# Altium integrated library AD Power Mgt Switching Regulator.IntLib: 24 symbols
Pins are listed as number, name and electrical type; pins without a type are passive.

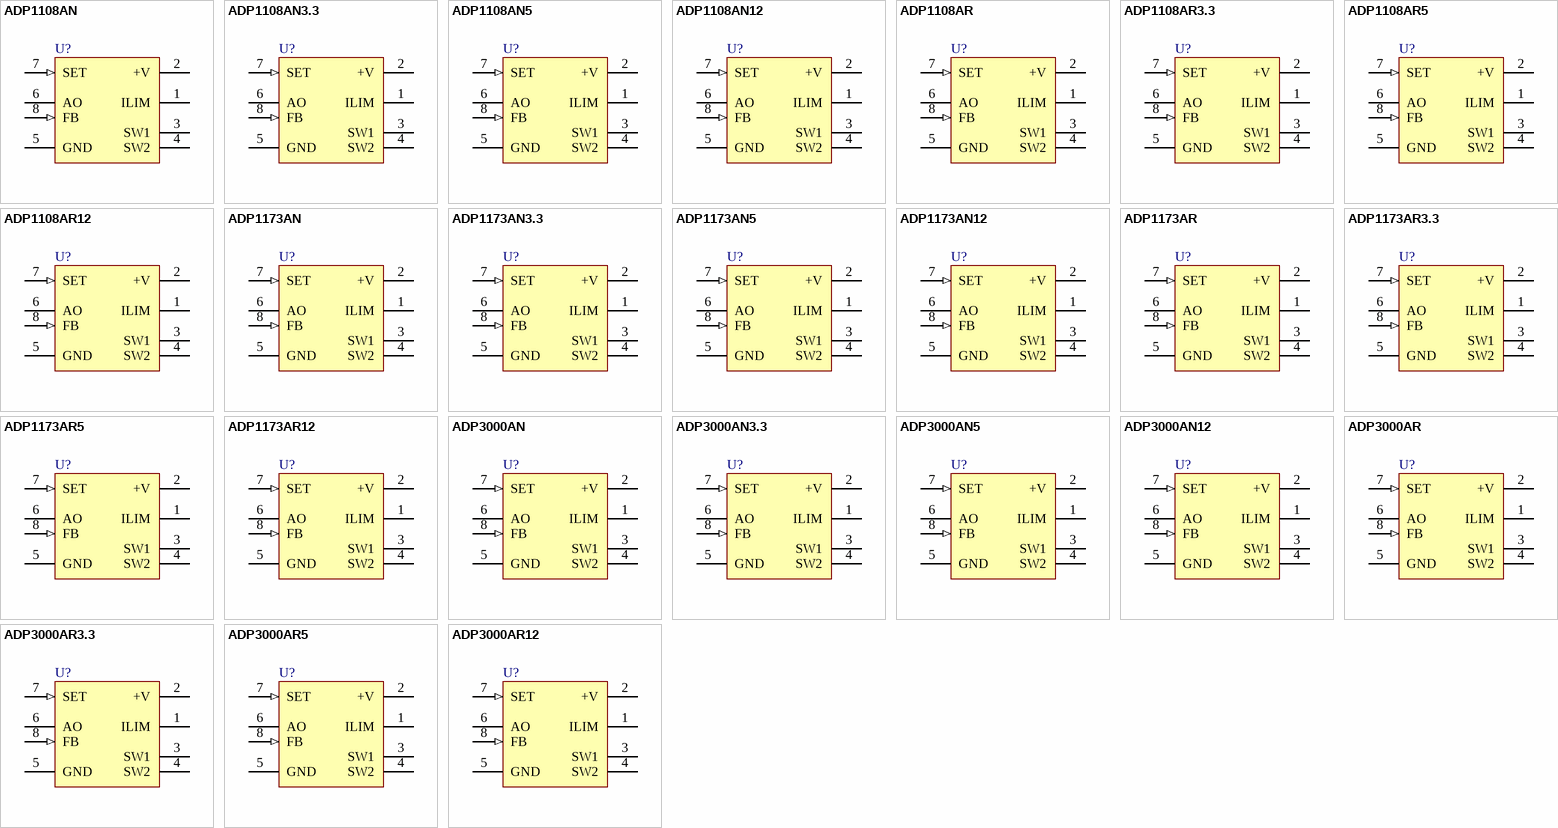
[diagram p0: symbols ADP1108AN to ADP3000AR12]

## ADP1108AN
designator U?
Micropower DC-DC Converter Adjustable and Fixed 3.3V, 5V, 12V; Published: 8-Jun-2000; LatestRevisionDate: 29-May-2009; LatestRevisionNote: Component Body Added.; DatasheetVersion: REV.0 1997; PackageReference: N-8_A; Publisher: Altium Limited; PackageDescription: DIP, 8-Pin, Row Spacing 7.62 mm, Pitch 2.54 mm; Code_JEDEC: MO-001-AN; ComponentLink1Description: Manufacturer Link; ComponentLink1URL: http://www.analog.com/
footprint N-8_A (DIP, 8-Leads, Row Spacing 7.62mm, Pitch 2.54mm, Body 9.88x6.61mm)
3D model N-8A (DIP, 8-Pin, Row Spacing 7.62 mm, Pitch 2.54 mm)
pins: 1 ILIM, 2 +V (power), 3 SW1, 4 SW2, 5 GND (power), 6 AO (oc), 7 SET (in), 8 FB (in)

## ADP1108AN3.3
designator U?
Micropower DC-DC Converter Adjustable and Fixed 3.3V, 5V, 12V; Published: 8-Jun-2000; LatestRevisionDate: 29-May-2009; LatestRevisionNote: Component Body Added.; DatasheetVersion: REV.0 1997; PackageReference: N-8_A; Publisher: Altium Limited; PackageDescription: DIP, 8-Pin, Row Spacing 7.62 mm, Pitch 2.54 mm; Code_JEDEC: MO-001-AN; ComponentLink1Description: Manufacturer Link; ComponentLink1URL: http://www.analog.com/
footprint N-8_A (DIP, 8-Leads, Row Spacing 7.62mm, Pitch 2.54mm, Body 9.88x6.61mm)
3D model N-8A (DIP, 8-Pin, Row Spacing 7.62 mm, Pitch 2.54 mm)
pins: 1 ILIM, 2 +V (power), 3 SW1, 4 SW2, 5 GND (power), 6 AO (oc), 7 SET (in), 8 FB (in)

## ADP1108AN5
designator U?
Micropower DC-DC Converter Adjustable and Fixed 3.3V, 5V, 12V; Published: 8-Jun-2000; LatestRevisionDate: 29-May-2009; LatestRevisionNote: Component Body Added.; DatasheetVersion: REV.0 1997; PackageReference: N-8_A; Publisher: Altium Limited; PackageDescription: DIP, 8-Pin, Row Spacing 7.62 mm, Pitch 2.54 mm; Code_JEDEC: MO-001-AN; ComponentLink1Description: Manufacturer Link; ComponentLink1URL: http://www.analog.com/
footprint N-8_A (DIP, 8-Leads, Row Spacing 7.62mm, Pitch 2.54mm, Body 9.88x6.61mm)
3D model N-8A (DIP, 8-Pin, Row Spacing 7.62 mm, Pitch 2.54 mm)
pins: 1 ILIM, 2 +V (power), 3 SW1, 4 SW2, 5 GND (power), 6 AO (oc), 7 SET (in), 8 FB (in)

## ADP1108AN12
designator U?
Micropower DC-DC Converter Adjustable and Fixed 3.3V, 5V, 12V; Published: 8-Jun-2000; LatestRevisionDate: 29-May-2009; LatestRevisionNote: Component Body Added.; DatasheetVersion: REV.0 1997; PackageReference: N-8_A; Publisher: Altium Limited; PackageDescription: DIP, 8-Pin, Row Spacing 7.62 mm, Pitch 2.54 mm; Code_JEDEC: MO-001-AN; ComponentLink1Description: Manufacturer Link; ComponentLink1URL: http://www.analog.com/
footprint N-8_A (DIP, 8-Leads, Row Spacing 7.62mm, Pitch 2.54mm, Body 9.88x6.61mm)
3D model N-8A (DIP, 8-Pin, Row Spacing 7.62 mm, Pitch 2.54 mm)
pins: 1 ILIM, 2 +V (power), 3 SW1, 4 SW2, 5 GND (power), 6 AO (oc), 7 SET (in), 8 FB (in)

## ADP1108AR
designator U?
Micropower DC-DC Converter Adjustable and Fixed 3.3V, 5V, 12V; Published: 8-Jun-2000; LatestRevisionDate: 13-Apr-2006; LatestRevisionNote: IPC-7351 Footprint Added.; DatasheetVersion: REV.0 1997; PackageVersion: revA; PackageReference: SO-8; Publisher: Altium Limited; PackageDescription: 8-Pin Small Outline Integrated Circuit 1.27 mm Pitch; Code_JEDEC: MS-012-AA; Code_IPC: SOIC127P600-8; ComponentLink1Description: Manufacturer Link; ComponentLink1URL: http://www.analog.com/
footprint SO-8_N (SOIC, 8-Leads, Body 4.9x3.9mm, Pitch 1.27mm, IPC Medium Density)
footprint SO-8_L (SOIC, 8-Leads, Body 4.9x3.9mm, Pitch 1.27mm, IPC High Density)
footprint SO-8_M (SOIC, 8-Leads, Body 4.9x3.9mm, Pitch 1.27mm, IPC Low Density)
3D model SO-8 (8-Pin Small Outline Integrated Circuit 1.27 mm Pitch)
pins: 1 ILIM, 2 +V (power), 3 SW1, 4 SW2, 5 GND (power), 6 AO (oc), 7 SET (in), 8 FB (in)

## ADP1108AR3.3
designator U?
Micropower DC-DC Converter Adjustable and Fixed 3.3V, 5V, 12V; Published: 8-Jun-2000; LatestRevisionDate: 13-Apr-2006; LatestRevisionNote: IPC-7351 Footprint Added.; DatasheetVersion: REV.0 1997; PackageVersion: revA; PackageReference: SO-8; Publisher: Altium Limited; PackageDescription: 8-Pin Small Outline Integrated Circuit 1.27 mm Pitch; Code_JEDEC: MS-012-AA; Code_IPC: SOIC127P600-8; ComponentLink1Description: Manufacturer Link; ComponentLink1URL: http://www.analog.com/
footprint SO-8_N (SOIC, 8-Leads, Body 4.9x3.9mm, Pitch 1.27mm, IPC Medium Density)
footprint SO-8_L (SOIC, 8-Leads, Body 4.9x3.9mm, Pitch 1.27mm, IPC High Density)
footprint SO-8_M (SOIC, 8-Leads, Body 4.9x3.9mm, Pitch 1.27mm, IPC Low Density)
3D model SO-8 (8-Pin Small Outline Integrated Circuit 1.27 mm Pitch)
pins: 1 ILIM, 2 +V (power), 3 SW1, 4 SW2, 5 GND (power), 6 AO (oc), 7 SET (in), 8 FB (in)

## ADP1108AR5
designator U?
Micropower DC-DC Converter Adjustable and Fixed 3.3V, 5V, 12V; Published: 8-Jun-2000; LatestRevisionDate: 13-Apr-2006; LatestRevisionNote: IPC-7351 Footprint Added.; DatasheetVersion: REV.0 1997; PackageVersion: revA; PackageReference: SO-8; Publisher: Altium Limited; PackageDescription: 8-Pin Small Outline Integrated Circuit 1.27 mm Pitch; Code_JEDEC: MS-012-AA; Code_IPC: SOIC127P600-8; ComponentLink1Description: Manufacturer Link; ComponentLink1URL: http://www.analog.com/
footprint SO-8_N (SOIC, 8-Leads, Body 4.9x3.9mm, Pitch 1.27mm, IPC Medium Density)
footprint SO-8_L (SOIC, 8-Leads, Body 4.9x3.9mm, Pitch 1.27mm, IPC High Density)
footprint SO-8_M (SOIC, 8-Leads, Body 4.9x3.9mm, Pitch 1.27mm, IPC Low Density)
3D model SO-8 (8-Pin Small Outline Integrated Circuit 1.27 mm Pitch)
pins: 1 ILIM, 2 +V (power), 3 SW1, 4 SW2, 5 GND (power), 6 AO (oc), 7 SET (in), 8 FB (in)

## ADP1108AR12
designator U?
Micropower DC-DC Converter Adjustable and Fixed 3.3V, 5V, 12V; Published: 8-Jun-2000; LatestRevisionDate: 13-Apr-2006; LatestRevisionNote: IPC-7351 Footprint Added.; DatasheetVersion: REV.0 1997; PackageVersion: revA; PackageReference: SO-8; Publisher: Altium Limited; PackageDescription: 8-Pin Small Outline Integrated Circuit 1.27 mm Pitch; Code_JEDEC: MS-012-AA; Code_IPC: SOIC127P600-8; ComponentLink1Description: Manufacturer Link; ComponentLink1URL: http://www.analog.com/
footprint SO-8_N (SOIC, 8-Leads, Body 4.9x3.9mm, Pitch 1.27mm, IPC Medium Density)
footprint SO-8_L (SOIC, 8-Leads, Body 4.9x3.9mm, Pitch 1.27mm, IPC High Density)
footprint SO-8_M (SOIC, 8-Leads, Body 4.9x3.9mm, Pitch 1.27mm, IPC Low Density)
3D model SO-8 (8-Pin Small Outline Integrated Circuit 1.27 mm Pitch)
pins: 1 ILIM, 2 +V (power), 3 SW1, 4 SW2, 5 GND (power), 6 AO (oc), 7 SET (in), 8 FB (in)

## ADP1173AN
designator U?
Micropower DC-DC Converter; Published: 8-Jun-2000; LatestRevisionDate: 29-May-2009; LatestRevisionNote: Component Body Added.; DatasheetVersion: REV.0 1997; PackageReference: N-8_A; Publisher: Altium Limited; PackageDescription: DIP, 8-Pin, Row Spacing 7.62 mm, Pitch 2.54 mm; Code_JEDEC: MO-001-AN; ComponentLink1Description: Manufacturer Link; ComponentLink1URL: http://www.analog.com/; ComponentLink2Description: Datasheet; ComponentLink2URL: http://www.analog.com/UploadedFiles/Data_Sheets/865213528ADP1173_0.pdf#xml=http://search.analog.com/search/pdfPainter.aspx?url=http://www.analog.com/UploadedFiles/Data_Sheets/865213528ADP1173_0.pdf&fterm=ADP1173AN&fterm=ADP1173AN&la=en
footprint N-8_A (DIP, 8-Leads, Row Spacing 7.62mm, Pitch 2.54mm, Body 9.88x6.61mm)
3D model N-8A (DIP, 8-Pin, Row Spacing 7.62 mm, Pitch 2.54 mm)
pins: 1 ILIM, 2 +V (power), 3 SW1, 4 SW2, 5 GND (power), 6 AO (oc), 7 SET (in), 8 FB (in)

## ADP1173AN3.3
designator U?
Micropower DC-DC Converter; Published: 8-Jun-2000; LatestRevisionDate: 29-May-2009; LatestRevisionNote: Component Body Added.; DatasheetVersion: REV.0 1997; PackageReference: N-8_A; Publisher: Altium Limited; PackageDescription: DIP, 8-Pin, Row Spacing 7.62 mm, Pitch 2.54 mm; Code_JEDEC: MO-001-AN; ComponentLink1Description: Manufacturer Link; ComponentLink1URL: http://www.analog.com/; ComponentLink2Description: Datasheet; ComponentLink2URL: http://www.analog.com/UploadedFiles/Data_Sheets/865213528ADP1173_0.pdf#xml=http://search.analog.com/search/pdfPainter.aspx?url=http://www.analog.com/UploadedFiles/Data_Sheets/865213528ADP1173_0.pdf&fterm=ADP1173AN&fterm=ADP1173AN&la=en
footprint N-8_A (DIP, 8-Leads, Row Spacing 7.62mm, Pitch 2.54mm, Body 9.88x6.61mm)
3D model N-8A (DIP, 8-Pin, Row Spacing 7.62 mm, Pitch 2.54 mm)
pins: 1 ILIM, 2 +V (power), 3 SW1, 4 SW2, 5 GND (power), 6 AO (oc), 7 SET (in), 8 FB (in)

## ADP1173AN5
designator U?
Micropower DC-DC Converter; Published: 8-Jun-2000; LatestRevisionDate: 29-May-2009; LatestRevisionNote: Component Body Added.; DatasheetVersion: REV.0 1997; PackageReference: N-8_A; Publisher: Altium Limited; PackageDescription: DIP, 8-Pin, Row Spacing 7.62 mm, Pitch 2.54 mm; Code_JEDEC: MO-001-AN; ComponentLink1Description: Manufacturer Link; ComponentLink1URL: http://www.analog.com/; ComponentLink2Description: Datasheet; ComponentLink2URL: http://www.analog.com/UploadedFiles/Data_Sheets/865213528ADP1173_0.pdf#xml=http://search.analog.com/search/pdfPainter.aspx?url=http://www.analog.com/UploadedFiles/Data_Sheets/865213528ADP1173_0.pdf&fterm=ADP1173AN&fterm=ADP1173AN&la=en
footprint N-8_A (DIP, 8-Leads, Row Spacing 7.62mm, Pitch 2.54mm, Body 9.88x6.61mm)
3D model N-8A (DIP, 8-Pin, Row Spacing 7.62 mm, Pitch 2.54 mm)
pins: 1 ILIM, 2 +V (power), 3 SW1, 4 SW2, 5 GND (power), 6 AO (oc), 7 SET (in), 8 FB (in)

## ADP1173AN12
designator U?
Micropower DC-DC Converter; Published: 8-Jun-2000; LatestRevisionDate: 29-May-2009; LatestRevisionNote: Component Body Added.; DatasheetVersion: REV.0 1997; PackageReference: N-8_A; Publisher: Altium Limited; PackageDescription: DIP, 8-Pin, Row Spacing 7.62 mm, Pitch 2.54 mm; Code_JEDEC: MO-001-AN; ComponentLink1Description: Manufacturer Link; ComponentLink1URL: http://www.analog.com/; ComponentLink2Description: Datasheet; ComponentLink2URL: http://www.analog.com/UploadedFiles/Data_Sheets/865213528ADP1173_0.pdf#xml=http://search.analog.com/search/pdfPainter.aspx?url=http://www.analog.com/UploadedFiles/Data_Sheets/865213528ADP1173_0.pdf&fterm=ADP1173AN&fterm=ADP1173AN&la=en
footprint N-8_A (DIP, 8-Leads, Row Spacing 7.62mm, Pitch 2.54mm, Body 9.88x6.61mm)
3D model N-8A (DIP, 8-Pin, Row Spacing 7.62 mm, Pitch 2.54 mm)
pins: 1 ILIM, 2 +V (power), 3 SW1, 4 SW2, 5 GND (power), 6 AO (oc), 7 SET (in), 8 FB (in)

## ADP1173AR
designator U?
Micropower DC-DC Converter; Published: 8-Jun-2000; LatestRevisionDate: 13-Apr-2006; LatestRevisionNote: IPC-7351 Footprint Added.; DatasheetVersion: REV.0 1997; PackageVersion: revA; PackageReference: SO-8; Publisher: Altium Limited; PackageDescription: 8-Pin Small Outline Integrated Circuit 1.27 mm Pitch; Code_JEDEC: MS-012-AA; Code_IPC: SOIC127P600-8; ComponentLink1Description: Manufacturer Link; ComponentLink1URL: http://www.analog.com/; ComponentLink2Description: Datasheet; ComponentLink2URL: http://www.analog.com/UploadedFiles/Data_Sheets/865213528ADP1173_0.pdf#xml=http://search.analog.com/search/pdfPainter.aspx?url=http://www.analog.com/UploadedFiles/Data_Sheets/865213528ADP1173_0.pdf&fterm=ADP1173AN&fterm=ADP1173AN&la=en
footprint SO-8_N (SOIC, 8-Leads, Body 4.9x3.9mm, Pitch 1.27mm, IPC Medium Density)
footprint SO-8_L (SOIC, 8-Leads, Body 4.9x3.9mm, Pitch 1.27mm, IPC High Density)
footprint SO-8_M (SOIC, 8-Leads, Body 4.9x3.9mm, Pitch 1.27mm, IPC Low Density)
3D model SO-8 (8-Pin Small Outline Integrated Circuit 1.27 mm Pitch)
pins: 1 ILIM, 2 +V (power), 3 SW1, 4 SW2, 5 GND (power), 6 AO (oc), 7 SET (in), 8 FB (in)

## ADP1173AR3.3
designator U?
Micropower DC-DC Converter; Published: 8-Jun-2000; LatestRevisionDate: 13-Apr-2006; LatestRevisionNote: IPC-7351 Footprint Added.; DatasheetVersion: REV.0 1997; PackageVersion: revA; PackageReference: SO-8; Publisher: Altium Limited; PackageDescription: 8-Pin Small Outline Integrated Circuit 1.27 mm Pitch; Code_JEDEC: MS-012-AA; Code_IPC: SOIC127P600-8; ComponentLink1Description: Manufacturer Link; ComponentLink1URL: http://www.analog.com/; ComponentLink2Description: Datasheet; ComponentLink2URL: http://www.analog.com/UploadedFiles/Data_Sheets/865213528ADP1173_0.pdf#xml=http://search.analog.com/search/pdfPainter.aspx?url=http://www.analog.com/UploadedFiles/Data_Sheets/865213528ADP1173_0.pdf&fterm=ADP1173AN&fterm=ADP1173AN&la=en
footprint SO-8_N (SOIC, 8-Leads, Body 4.9x3.9mm, Pitch 1.27mm, IPC Medium Density)
footprint SO-8_L (SOIC, 8-Leads, Body 4.9x3.9mm, Pitch 1.27mm, IPC High Density)
footprint SO-8_M (SOIC, 8-Leads, Body 4.9x3.9mm, Pitch 1.27mm, IPC Low Density)
3D model SO-8 (8-Pin Small Outline Integrated Circuit 1.27 mm Pitch)
pins: 1 ILIM, 2 +V (power), 3 SW1, 4 SW2, 5 GND (power), 6 AO (oc), 7 SET (in), 8 FB (in)

## ADP1173AR5
designator U?
Micropower DC-DC Converter; Published: 8-Jun-2000; LatestRevisionDate: 13-Apr-2006; LatestRevisionNote: IPC-7351 Footprint Added.; DatasheetVersion: REV.0 1997; PackageVersion: revA; PackageReference: SO-8; Publisher: Altium Limited; PackageDescription: 8-Pin Small Outline Integrated Circuit 1.27 mm Pitch; Code_JEDEC: MS-012-AA; Code_IPC: SOIC127P600-8; ComponentLink1Description: Manufacturer Link; ComponentLink1URL: http://www.analog.com/; ComponentLink2Description: Datasheet; ComponentLink2URL: http://www.analog.com/UploadedFiles/Data_Sheets/865213528ADP1173_0.pdf#xml=http://search.analog.com/search/pdfPainter.aspx?url=http://www.analog.com/UploadedFiles/Data_Sheets/865213528ADP1173_0.pdf&fterm=ADP1173AN&fterm=ADP1173AN&la=en
footprint SO-8_N (SOIC, 8-Leads, Body 4.9x3.9mm, Pitch 1.27mm, IPC Medium Density)
footprint SO-8_L (SOIC, 8-Leads, Body 4.9x3.9mm, Pitch 1.27mm, IPC High Density)
footprint SO-8_M (SOIC, 8-Leads, Body 4.9x3.9mm, Pitch 1.27mm, IPC Low Density)
3D model SO-8 (8-Pin Small Outline Integrated Circuit 1.27 mm Pitch)
pins: 1 ILIM, 2 +V (power), 3 SW1, 4 SW2, 5 GND (power), 6 AO (oc), 7 SET (in), 8 FB (in)

## ADP1173AR12
designator U?
Micropower DC-DC Converter; Published: 8-Jun-2000; LatestRevisionDate: 13-Apr-2006; LatestRevisionNote: IPC-7351 Footprint Added.; DatasheetVersion: REV.0 1997; PackageVersion: revA; PackageReference: SO-8; Publisher: Altium Limited; PackageDescription: 8-Pin Small Outline Integrated Circuit 1.27 mm Pitch; Code_JEDEC: MS-012-AA; Code_IPC: SOIC127P600-8; ComponentLink1Description: Manufacturer Link; ComponentLink1URL: http://www.analog.com/; ComponentLink2Description: Datasheet; ComponentLink2URL: http://www.analog.com/UploadedFiles/Data_Sheets/865213528ADP1173_0.pdf#xml=http://search.analog.com/search/pdfPainter.aspx?url=http://www.analog.com/UploadedFiles/Data_Sheets/865213528ADP1173_0.pdf&fterm=ADP1173AN&fterm=ADP1173AN&la=en
footprint SO-8_N (SOIC, 8-Leads, Body 4.9x3.9mm, Pitch 1.27mm, IPC Medium Density)
footprint SO-8_L (SOIC, 8-Leads, Body 4.9x3.9mm, Pitch 1.27mm, IPC High Density)
footprint SO-8_M (SOIC, 8-Leads, Body 4.9x3.9mm, Pitch 1.27mm, IPC Low Density)
3D model SO-8 (8-Pin Small Outline Integrated Circuit 1.27 mm Pitch)
pins: 1 ILIM, 2 +V (power), 3 SW1, 4 SW2, 5 GND (power), 6 AO (oc), 7 SET (in), 8 FB (in)

## ADP3000AN
designator U?
Micropower Step-Up/Step-Down Fixed 3.3V, 5V, 12V & Adjustable High-Frequency Switching Regulator; Published: 8-Jun-2000; LatestRevisionDate: 29-May-2009; LatestRevisionNote: Component Body Added.; DatasheetVersion: REV.0 1997; PackageReference: N-8_A; Publisher: Altium Limited; PackageDescription: DIP, 8-Pin, Row Spacing 7.62 mm, Pitch 2.54 mm; Code_JEDEC: MO-001-AN; ComponentLink1Description: Manufacturer Link; ComponentLink1URL: http://www.analog.com/en/prod/0%2C2877%2CADP3000%2C00.html; ComponentLink2Description: Datasheet; ComponentLink2URL: http://www.analog.com/UploadedFiles/Data_Sheets/421574674ADP3000_a.pdf
footprint N-8_A (DIP, 8-Leads, Row Spacing 7.62mm, Pitch 2.54mm, Body 9.88x6.61mm)
3D model N-8A (DIP, 8-Pin, Row Spacing 7.62 mm, Pitch 2.54 mm)
pins: 1 ILIM, 2 +V (power), 3 SW1, 4 SW2, 5 GND (power), 6 AO (oc), 7 SET (in), 8 FB (in)

## ADP3000AN3.3
designator U?
Micropower Step-Up/Step-Down Fixed 3.3V, 5V, 12V & Adjustable High-Frequency Switching Regulator; Published: 8-Jun-2000; LatestRevisionDate: 29-May-2009; LatestRevisionNote: Component Body Added.; DatasheetVersion: REV.0 1997; PackageReference: N-8_A; Publisher: Altium Limited; PackageDescription: DIP, 8-Pin, Row Spacing 7.62 mm, Pitch 2.54 mm; Code_JEDEC: MO-001-AN; ComponentLink1Description: Manufacturer Link; ComponentLink1URL: http://www.analog.com/en/prod/0%2C2877%2CADP3000%2C00.html; ComponentLink2Description: Datasheet; ComponentLink2URL: http://www.analog.com/UploadedFiles/Data_Sheets/421574674ADP3000_a.pdf
footprint N-8_A (DIP, 8-Leads, Row Spacing 7.62mm, Pitch 2.54mm, Body 9.88x6.61mm)
3D model N-8A (DIP, 8-Pin, Row Spacing 7.62 mm, Pitch 2.54 mm)
pins: 1 ILIM, 2 +V (power), 3 SW1, 4 SW2, 5 GND (power), 6 AO (oc), 7 SET (in), 8 FB (in)

## ADP3000AN5
designator U?
Micropower Step-Up/Step-Down Fixed 3.3V, 5V, 12V & Adjustable High-Frequency Switching Regulator; Published: 8-Jun-2000; LatestRevisionDate: 29-May-2009; LatestRevisionNote: Component Body Added.; DatasheetVersion: REV.0 1997; PackageReference: N-8_A; Publisher: Altium Limited; PackageDescription: DIP, 8-Pin, Row Spacing 7.62 mm, Pitch 2.54 mm; Code_JEDEC: MO-001-AN; ComponentLink1Description: Manufacturer Link; ComponentLink1URL: http://www.analog.com/en/prod/0%2C2877%2CADP3000%2C00.html; ComponentLink2Description: Datasheet; ComponentLink2URL: http://www.analog.com/UploadedFiles/Data_Sheets/421574674ADP3000_a.pdf
footprint N-8_A (DIP, 8-Leads, Row Spacing 7.62mm, Pitch 2.54mm, Body 9.88x6.61mm)
3D model N-8A (DIP, 8-Pin, Row Spacing 7.62 mm, Pitch 2.54 mm)
pins: 1 ILIM, 2 +V (power), 3 SW1, 4 SW2, 5 GND (power), 6 AO (oc), 7 SET (in), 8 FB (in)

## ADP3000AN12
designator U?
Micropower Step-Up/Step-Down Fixed 3.3V, 5V, 12V & Adjustable High-Frequency Switching Regulator; Published: 8-Jun-2000; LatestRevisionDate: 29-May-2009; LatestRevisionNote: Component Body Added.; DatasheetVersion: REV.0 1997; PackageReference: N-8_A; Publisher: Altium Limited; PackageDescription: DIP, 8-Pin, Row Spacing 7.62 mm, Pitch 2.54 mm; Code_JEDEC: MO-001-AN; ComponentLink1Description: Manufacturer Link; ComponentLink1URL: http://www.analog.com/en/prod/0%2C2877%2CADP3000%2C00.html; ComponentLink2Description: Datasheet; ComponentLink2URL: http://www.analog.com/UploadedFiles/Data_Sheets/421574674ADP3000_a.pdf
footprint N-8_A (DIP, 8-Leads, Row Spacing 7.62mm, Pitch 2.54mm, Body 9.88x6.61mm)
3D model N-8A (DIP, 8-Pin, Row Spacing 7.62 mm, Pitch 2.54 mm)
pins: 1 ILIM, 2 +V (power), 3 SW1, 4 SW2, 5 GND (power), 6 AO (oc), 7 SET (in), 8 FB (in)

## ADP3000AR
designator U?
Micropower Step-Up/Step-Down Fixed 3.3V, 5V, 12V & Adjustable High-Frequency Switching Regulator; Published: 8-Jun-2000; LatestRevisionDate: 13-Apr-2006; LatestRevisionNote: IPC-7351 Footprint Added.; DatasheetVersion: REV.0 1997; PackageVersion: revA; PackageReference: SO-8; Publisher: Altium Limited; PackageDescription: 8-Pin Small Outline Integrated Circuit 1.27 mm Pitch; Code_JEDEC: MS-012-AA; Code_IPC: SOIC127P600-8; ComponentLink1Description: Manufacturer Link; ComponentLink1URL: http://www.analog.com/en/prod/0%2C2877%2CADP3000%2C00.html; ComponentLink2Description: Datasheet; ComponentLink2URL: http://www.analog.com/UploadedFiles/Data_Sheets/421574674ADP3000_a.pdf
footprint SO-8_N (SOIC, 8-Leads, Body 4.9x3.9mm, Pitch 1.27mm, IPC Medium Density)
footprint SO-8_L (SOIC, 8-Leads, Body 4.9x3.9mm, Pitch 1.27mm, IPC High Density)
footprint SO-8_M (SOIC, 8-Leads, Body 4.9x3.9mm, Pitch 1.27mm, IPC Low Density)
3D model SO-8 (8-Pin Small Outline Integrated Circuit 1.27 mm Pitch)
pins: 1 ILIM, 2 +V (power), 3 SW1, 4 SW2, 5 GND (power), 6 AO (oc), 7 SET (in), 8 FB (in)

## ADP3000AR3.3
designator U?
Micropower Step-Up/Step-Down Fixed 3.3V, 5V, 12V & Adjustable High-Frequency Switching Regulator; Published: 8-Jun-2000; LatestRevisionDate: 13-Apr-2006; LatestRevisionNote: IPC-7351 Footprint Added.; DatasheetVersion: REV.0 1997; PackageVersion: revA; PackageReference: SO-8; Publisher: Altium Limited; PackageDescription: 8-Pin Small Outline Integrated Circuit 1.27 mm Pitch; Code_JEDEC: MS-012-AA; Code_IPC: SOIC127P600-8; ComponentLink1Description: Manufacturer Link; ComponentLink1URL: http://www.analog.com/en/prod/0%2C2877%2CADP3000%2C00.html; ComponentLink2Description: Datasheet; ComponentLink2URL: http://www.analog.com/UploadedFiles/Data_Sheets/421574674ADP3000_a.pdf
footprint SO-8_N (SOIC, 8-Leads, Body 4.9x3.9mm, Pitch 1.27mm, IPC Medium Density)
footprint SO-8_L (SOIC, 8-Leads, Body 4.9x3.9mm, Pitch 1.27mm, IPC High Density)
footprint SO-8_M (SOIC, 8-Leads, Body 4.9x3.9mm, Pitch 1.27mm, IPC Low Density)
3D model SO-8 (8-Pin Small Outline Integrated Circuit 1.27 mm Pitch)
pins: 1 ILIM, 2 +V (power), 3 SW1, 4 SW2, 5 GND (power), 6 AO (oc), 7 SET (in), 8 FB (in)

## ADP3000AR5
designator U?
Micropower Step-Up/Step-Down Fixed 3.3V, 5V, 12V & Adjustable High-Frequency Switching Regulator; Published: 8-Jun-2000; LatestRevisionDate: 13-Apr-2006; LatestRevisionNote: IPC-7351 Footprint Added.; DatasheetVersion: REV.0 1997; PackageVersion: revA; PackageReference: SO-8; Publisher: Altium Limited; PackageDescription: 8-Pin Small Outline Integrated Circuit 1.27 mm Pitch; Code_JEDEC: MS-012-AA; Code_IPC: SOIC127P600-8; ComponentLink1Description: Manufacturer Link; ComponentLink1URL: http://www.analog.com/en/prod/0%2C2877%2CADP3000%2C00.html; ComponentLink2Description: Datasheet; ComponentLink2URL: http://www.analog.com/UploadedFiles/Data_Sheets/421574674ADP3000_a.pdf
footprint SO-8_N (SOIC, 8-Leads, Body 4.9x3.9mm, Pitch 1.27mm, IPC Medium Density)
footprint SO-8_L (SOIC, 8-Leads, Body 4.9x3.9mm, Pitch 1.27mm, IPC High Density)
footprint SO-8_M (SOIC, 8-Leads, Body 4.9x3.9mm, Pitch 1.27mm, IPC Low Density)
3D model SO-8 (8-Pin Small Outline Integrated Circuit 1.27 mm Pitch)
pins: 1 ILIM, 2 +V (power), 3 SW1, 4 SW2, 5 GND (power), 6 AO (oc), 7 SET (in), 8 FB (in)

## ADP3000AR12
designator U?
Micropower Step-Up/Step-Down Fixed 3.3V, 5V, 12V & Adjustable High-Frequency Switching Regulator; Published: 8-Jun-2000; LatestRevisionDate: 13-Apr-2006; LatestRevisionNote: IPC-7351 Footprint Added.; DatasheetVersion: REV.0 1997; PackageVersion: revA; PackageReference: SO-8; Publisher: Altium Limited; PackageDescription: 8-Pin Small Outline Integrated Circuit 1.27 mm Pitch; Code_JEDEC: MS-012-AA; Code_IPC: SOIC127P600-8; ComponentLink1Description: Manufacturer Link; ComponentLink1URL: http://www.analog.com/en/prod/0%2C2877%2CADP3000%2C00.html; ComponentLink2Description: Datasheet; ComponentLink2URL: http://www.analog.com/UploadedFiles/Data_Sheets/421574674ADP3000_a.pdf
footprint SO-8_N (SOIC, 8-Leads, Body 4.9x3.9mm, Pitch 1.27mm, IPC Medium Density)
footprint SO-8_L (SOIC, 8-Leads, Body 4.9x3.9mm, Pitch 1.27mm, IPC High Density)
footprint SO-8_M (SOIC, 8-Leads, Body 4.9x3.9mm, Pitch 1.27mm, IPC Low Density)
3D model SO-8 (8-Pin Small Outline Integrated Circuit 1.27 mm Pitch)
pins: 1 ILIM, 2 +V (power), 3 SW1, 4 SW2, 5 GND (power), 6 AO (oc), 7 SET (in), 8 FB (in)